# Altium footprint library D1206(3216).PcbLib: 1 footprints
Each footprint in its own frame and in the unit in brackets; x right, y up, seen from the top. Pads: shape width x height; smd on the part's side, far side on the other; paste and mask are expansions set on the pad; w line width, h text height; cw(c..) or ccw(c..) is an arc to the next point about the centre after c.
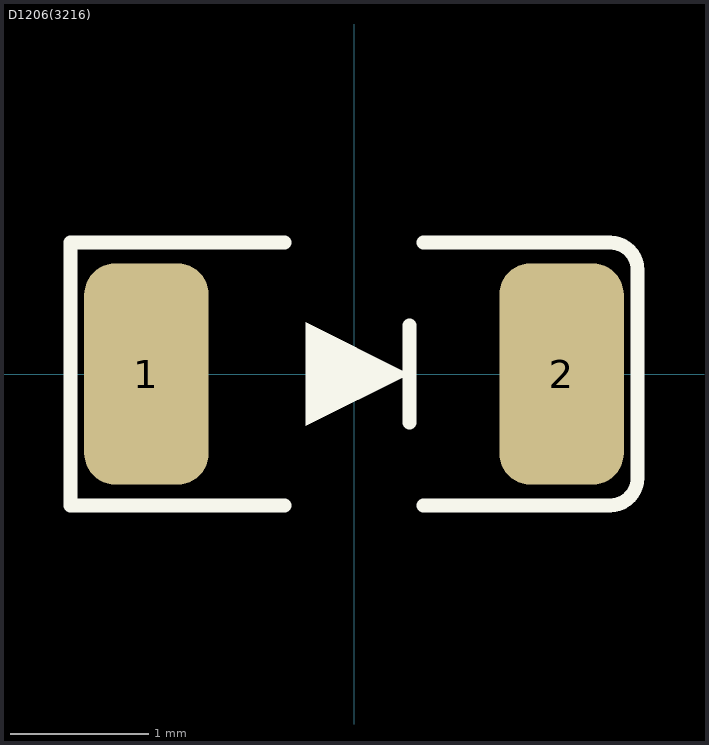
[diagram p0: the footprint, top view; thin cyan lines are the x and y axes]

## D1206(3216) [mm]
height 0.85
pads (2):
  rrect50% 0.9x1.6 smd mask+0.102: 1(-1.5,0) 2(1.5,0)
Top Overlay:
  region: -0.35,0.375 0.4,0 -0.35,-0.375
  lines w0.1: -0.5,-0.95 -2.05,-0.95 -2.05,0.95 -0.5,0.95 ; 0.4,-0.35 0.4,0.35 ; 0.5,-0.95 1.85,-0.95 ccw(c1.85,-0.75) 2.05,-0.75 2.05,0.752 ccw(c1.852,0.752) 1.852,0.95 ; 0.5,0.95 1.85,0.95
3D body "D1206(3216).STEP": height 0.85, standoff 0, extent -1.675,-0.865 1.675,0.865